# Altium footprint library TPS25730DREFR.PcbLib: 1 footprints
Each footprint in its own frame and in the unit in brackets; x right, y up, seen from the top. Pads: shape width x height; smd on the part's side, far side on the other; paste and mask are expansions set on the pad; w line width, h text height; cw(c..) or ccw(c..) is an arc to the next point about the centre after c.
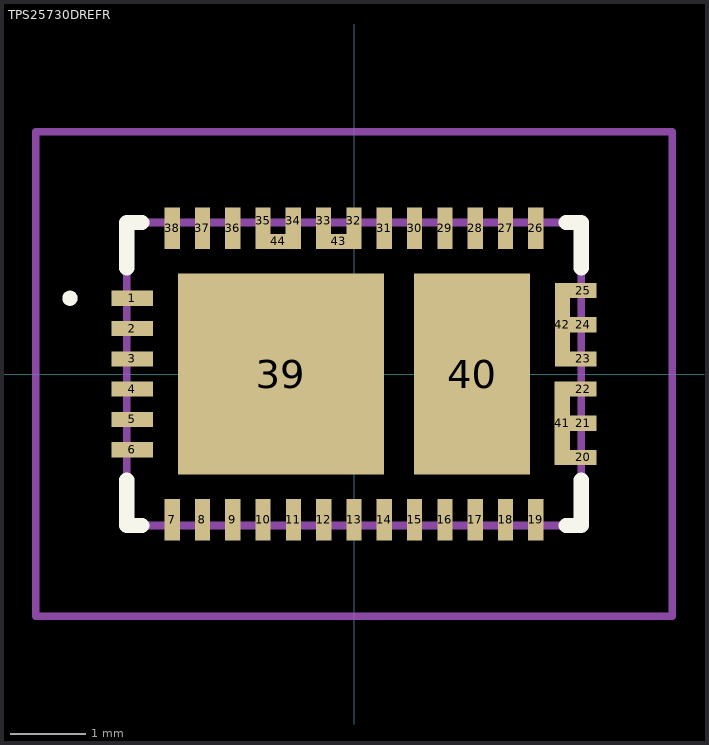
[diagram p0: the footprint, top view; thin cyan lines are the x and y axes]

## TPS25730DREFR [mm]
pads (44):
  rect 0.55x0.2 smd: 1(-2.925,1) 2(-2.925,0.6) 3(-2.925,0.2) 4(-2.925,-0.2) 5(-2.925,-0.6) 6(-2.925,-1)
  rect 0.2x0.55 smd: 7(-2.4,-1.925) 8(-2,-1.925) 9(-1.6,-1.925) 10(-1.2,-1.925) 11(-0.8,-1.925) 12(-0.4,-1.925) 13(0,-1.925) 14(0.4,-1.925) 15(0.8,-1.925) 16(1.2,-1.925) 17(1.6,-1.925) 18(2,-1.925) 19(2.4,-1.925) 26(2.4,1.925) 27(2,1.925) 28(1.6,1.925) 29(1.2,1.925) 30(0.8,1.925) 31(0.4,1.925) 36(-1.6,1.925) 37(-2,1.925) 38(-2.4,1.925)
  rect 0.35x0.2 smd: 20(3.025,-1.1) 21(3.025,-0.65) 22(3.025,-0.2) 23(3.025,0.2) 24(3.025,0.65) 25(3.025,1.1)
  rect 0.2x0.35 smd: 32(-0.001,2.025) 33(-0.401,2.025) 34(-0.801,2.025) 35(-1.201,2.025)
  rect 2.72x2.65 smd: 39(-0.965,0)
  rect 1.53x2.65 smd: 40(1.56,0)
  rect 0.2x1.1 smd: 41(2.749,-0.65) 42(2.75,0.65)
  rect 0.6x0.2 smd: 43(-0.201,1.75) 44(-1.001,1.75)
Top Overlay:
  lines w0.1: -3.8,1 cw(c-3.75,1) -3.7,1 ; -3.8,1 -3.8,1 ; -3.8,1 ccw(c-3.75,1) -3.7,1 ; -3.7,1 -3.7,1
  lines w0.2: -3,-1.4 -3,-2 -2.8,-2 ; -3,1.4 -3,2 -2.8,2 ; 2.8,-2 3,-2 3,-1.4 ; 2.8,2 3,2 3,1.4
Mechanical 15:
  lines w0.1: -3,-2 3,-2 3,2 -3,2 -3,-2
Mechanical 20:
  lines w0.1: -4.2,-3.2 4.2,-3.2 4.2,3.2 -4.2,3.2 -4.2,-3.2